# EAGLE library part INA126 (library lib_stankus)
TI INA126 instrumentation amplifier
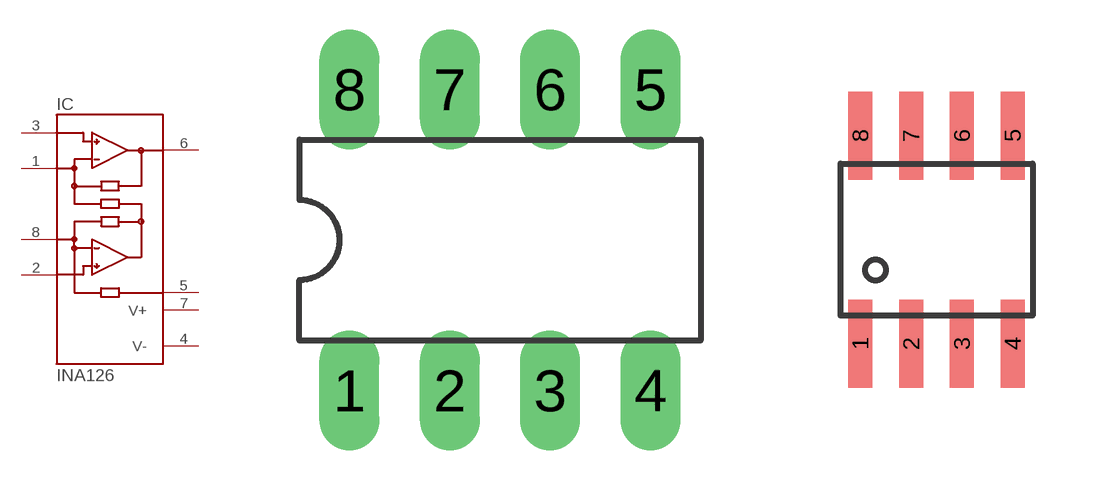
[diagram p19: symbol with the pads of DIL08_BIG; footprints DIL08_BIG, SOIC8]

Designator prefix IC

## INA126-DIL08_BIG  [DIL08_BIG]
1  RG  pas
2  -IN  pas
3  +IN  pas
4  V-  pas
5  REF  pas
6  OUT  pas
7  V+  pas
8  RG  pas

## INA126-SOIC8  [SOIC8]
Pads as for DIL08_BIG

## Footprint DIL08_BIG (pad centres in mm)
DIL8, 60MIL PADS
drill 0.8 pad 1.524 long: 1 -3.81,-3.81; 2 -1.27,-3.81; 3 1.27,-3.81; 4 3.81,-3.81; 5 3.81,3.81; 6 1.27,3.81; 7 -1.27,3.81; 8 -3.81,3.81

## Footprint SOIC8 (pad centres in mm)
SOIC8
smd 0.6 x 2.2: 1 -1.905,-2.6; 2 -0.635,-2.6; 3 0.635,-2.6; 4 1.905,-2.6; 5 1.905,2.6; 6 0.635,2.6; 7 -0.635,2.6; 8 -1.905,2.6